# Altium footprint library Crystal.PcbLib: 180 footprints (part 7 of 12)
Each footprint in its own frame and in the unit in brackets; x right, y up, seen from the top. Pads: shape width x height; smd on the part's side, far side on the other; paste and mask are expansions set on the pad; w line width, h text height; cw(c..) or ccw(c..) is an arc to the next point about the centre after c.
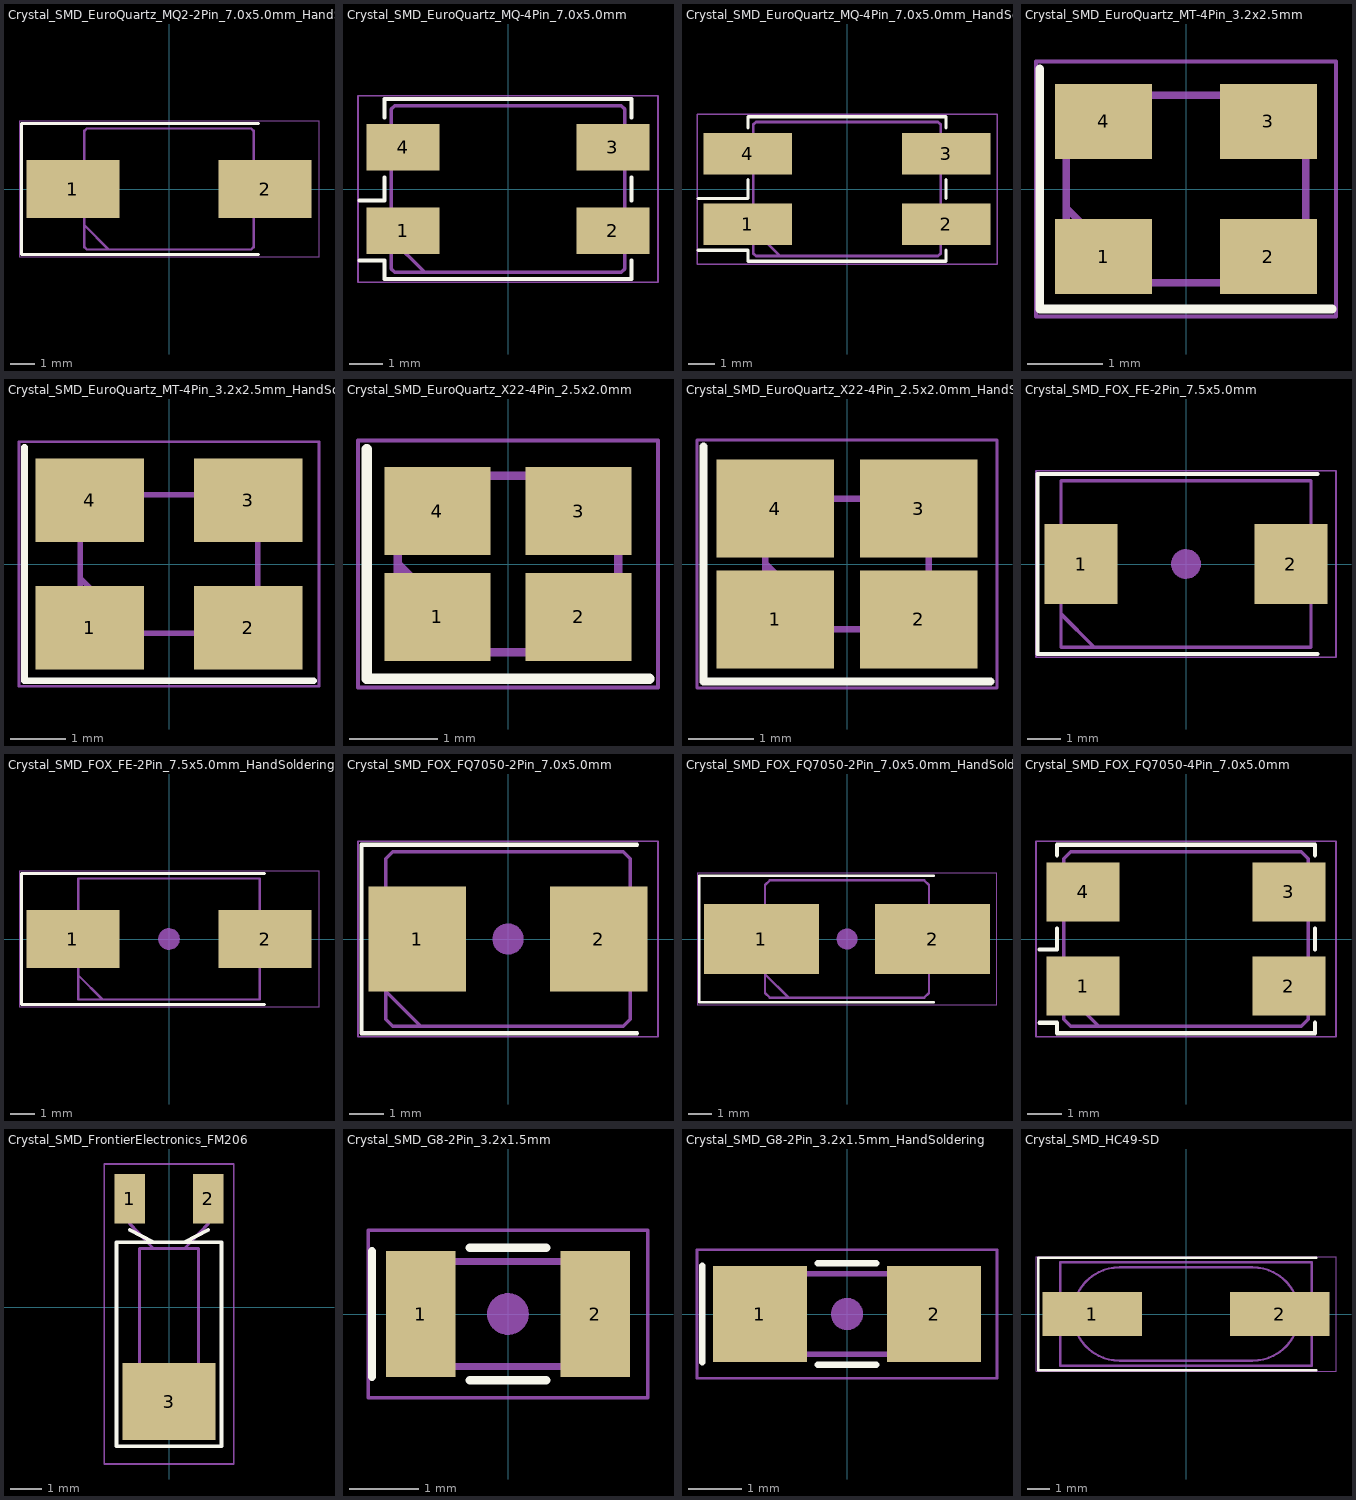
[diagram p6: the footprints below, top view; thin cyan lines are the x and y axes]

## Crystal_SMD_EuroQuartz_MQ2-2Pin_7.0x5.0mm_HandSoldering [mm]
pads (2):
  rect 3.85x2.4 smd: 1(-3.975,0) 2(3.975,0)
F.SilkS:
  lines w0.12: 3.7,-2.7 -6.1,-2.7 -6.1,2.7 3.7,2.7
F.CrtYd:
  lines w0.05: -6.2,-2.8 6.2,-2.8 6.2,2.8 -6.2,2.8 -6.2,-2.8
F.Fab:
  lines w0.1: -3.5,-1.5 -2.5,-2.5 ; -3.5,-2.4 -3.5,2.4 -3.4,2.5 3.4,2.5 3.5,2.4 3.5,-2.4 3.4,-2.5 -3.4,-2.5 -3.5,-2.4
  text "'.Designator'" at -4.047,-0.84 h1

## Crystal_SMD_EuroQuartz_MQ-4Pin_7.0x5.0mm [mm]
pads (4):
  rect 2.2x1.4 smd: 1(-3.15,-1.25) 2(3.15,-1.25) 3(3.15,1.25) 4(-3.15,1.25)
F.SilkS:
  lines w0.12: -4.45,-2.15 -3.7,-2.15 -3.7,-2.7 3.7,-2.7 3.7,-2.15 ; -4.45,-0.35 -3.7,-0.35 -3.7,0.35 ; -3.7,2.15 -3.7,2.7 3.7,2.7 3.7,2.15 ; 3.7,-0.35 3.7,0.35
F.CrtYd:
  lines w0.05: -4.5,-2.8 -4.5,2.8 4.5,2.8 4.5,-2.8 -4.5,-2.8
F.Fab:
  lines w0.1: -3.5,-1.5 -2.5,-2.5 ; -3.5,-2.4 -3.5,2.4 -3.4,2.5 3.4,2.5 3.5,2.4 3.5,-2.4 3.4,-2.5 -3.4,-2.5 -3.5,-2.4
  text "'.Designator'" at -4.047,-0.84 h1

## Crystal_SMD_EuroQuartz_MQ-4Pin_7.0x5.0mm_HandSoldering [mm]
pads (4):
  rect 3.3x1.54 smd: 1(-3.7,-1.32) 2(3.7,-1.32) 3(3.7,1.32) 4(-3.7,1.32)
F.SilkS:
  lines w0.12: -5.55,-2.29 -3.7,-2.29 -3.7,-2.7 3.7,-2.7 3.7,-2.29 ; -5.55,-0.35 -3.7,-0.35 -3.7,0.35 ; -3.7,2.29 -3.7,2.7 3.7,2.7 3.7,2.29 ; 3.7,-0.35 3.7,0.35
F.CrtYd:
  lines w0.05: -5.6,-2.8 5.6,-2.8 5.6,2.8 -5.6,2.8 -5.6,-2.8
F.Fab:
  lines w0.1: -3.5,-1.5 -2.5,-2.5 ; -3.5,-2.4 -3.5,2.4 -3.4,2.5 3.4,2.5 3.5,2.4 3.5,-2.4 3.4,-2.5 -3.4,-2.5 -3.5,-2.4
  text "'.Designator'" at -4.047,-0.84 h1

## Crystal_SMD_EuroQuartz_MT-4Pin_3.2x2.5mm [mm]
pads (4):
  rect 1.3x1 smd: 1(-1.1,-0.9) 2(1.1,-0.9) 3(1.1,0.9) 4(-1.1,0.9)
F.SilkS:
  lines w0.12: -1.95,1.6 -1.95,-1.6 1.95,-1.6
F.CrtYd:
  lines w0.05: -2,-1.7 -2,1.7 2,1.7 2,-1.7 -2,-1.7
F.Fab:
  lines w0.1: -1.6,-0.25 -0.6,-1.25 ; -1.6,-1.15 -1.5,-1.25 1.5,-1.25 1.6,-1.15 1.6,1.15 1.5,1.25 -1.5,1.25 -1.6,1.15 -1.6,-1.15
  text "'.Designator'" at -2.833,-0.588 h0.7
3D body "Crystal_SMD_EuroQuartz_MT-4Pin_3.2x2.5mm.step": height 0.64, standoff 0, extent -1.599,-1.251 1.601,1.25

## Crystal_SMD_EuroQuartz_MT-4Pin_3.2x2.5mm_HandSoldering [mm]
pads (4):
  rect 1.95x1.5 smd: 1(-1.425,-1.15) 2(1.425,-1.15) 3(1.425,1.15) 4(-1.425,1.15)
F.SilkS:
  lines w0.12: -2.6,2.1 -2.6,-2.1 2.6,-2.1
F.CrtYd:
  lines w0.05: -2.7,-2.2 2.7,-2.2 2.7,2.2 -2.7,2.2 -2.7,-2.2
F.Fab:
  lines w0.1: -1.6,-0.25 -0.6,-1.25 ; -1.6,-1.15 -1.6,1.15 -1.5,1.25 1.5,1.25 1.6,1.15 1.6,-1.15 1.5,-1.25 -1.5,-1.25 -1.6,-1.15
  text "'.Designator'" at -2.833,-0.588 h0.7
3D body "Crystal_SMD_EuroQuartz_MT-4Pin_3.2x2.5mm_HandSoldering.step": height 0.64, standoff 0, extent -1.599,-1.251 1.601,1.25

## Crystal_SMD_EuroQuartz_X22-4Pin_2.5x2.0mm [mm]
pads (4):
  rect 1.2x1 smd: 1(-0.8,-0.6) 2(0.8,-0.6) 3(0.8,0.6) 4(-0.8,0.6)
F.SilkS:
  lines w0.12: -1.6,1.3 -1.6,-1.3 1.6,-1.3
F.CrtYd:
  lines w0.05: -1.7,-1.4 -1.7,1.4 1.7,1.4 1.7,-1.4 -1.7,-1.4
F.Fab:
  lines w0.1: -1.25,0 -0.25,-1 ; -1.25,-0.9 -1.25,0.9 -1.15,1 1.15,1 1.25,0.9 1.25,-0.9 1.15,-1 -1.15,-1 -1.25,-0.9
  text "'.Designator'" at -2.428,-0.504 h0.6

## Crystal_SMD_EuroQuartz_X22-4Pin_2.5x2.0mm_HandSoldering [mm]
pads (4):
  rect 1.8x1.5 smd: 1(-1.1,-0.85) 2(1.1,-0.85) 3(1.1,0.85) 4(-1.1,0.85)
F.SilkS:
  lines w0.12: -2.2,1.8 -2.2,-1.8 2.2,-1.8
F.CrtYd:
  lines w0.05: -2.3,-1.9 -2.3,1.9 2.3,1.9 2.3,-1.9 -2.3,-1.9
F.Fab:
  lines w0.1: -1.25,0 -0.25,-1 ; -1.25,-0.9 -1.15,-1 1.15,-1 1.25,-0.9 1.25,0.9 1.15,1 -1.15,1 -1.25,0.9 -1.25,-0.9
  text "'.Designator'" at -2.428,-0.504 h0.6

## Crystal_SMD_FOX_FE-2Pin_7.5x5.0mm [mm]
pads (2):
  rect 2.2x2.4 smd: 1(-3.15,0) 2(3.15,0)
F.SilkS:
  lines w0.12: 3.95,-2.7 -4.45,-2.7 -4.45,2.7 3.95,2.7
F.CrtYd:
  lines w0.05: -4.5,-2.8 4.5,-2.8 4.5,2.8 -4.5,2.8 -4.5,-2.8
F.Fab:
  lines w0.1: -3.75,-1.5 -2.75,-2.5 ; -3.75,-2.5 3.75,-2.5 3.75,2.5 -3.75,2.5 -3.75,-2.5
  text "'.Designator'" at -4.047,-0.84 h1
F.Adhes:
  circle w0.1: c0,0 r0.4
  circle w0.133: c0,0 r0.333
  circle w0.187: c0,0 r0.093
  circle w0.133: c0,0 r0.213

## Crystal_SMD_FOX_FE-2Pin_7.5x5.0mm_HandSoldering [mm]
pads (2):
  rect 3.85x2.4 smd: 1(-3.975,0) 2(3.975,0)
F.SilkS:
  lines w0.12: 3.95,-2.7 -6.1,-2.7 -6.1,2.7 3.95,2.7
F.CrtYd:
  lines w0.05: -6.2,-2.8 6.2,-2.8 6.2,2.8 -6.2,2.8 -6.2,-2.8
F.Fab:
  lines w0.1: -3.75,-1.5 -2.75,-2.5 ; -3.75,-2.5 3.75,-2.5 3.75,2.5 -3.75,2.5 -3.75,-2.5
  text "'.Designator'" at -4.047,-0.84 h1
F.Adhes:
  circle w0.133: c0,0 r0.213
  circle w0.133: c0,0 r0.333
  circle w0.1: c0,0 r0.4
  circle w0.187: c0,0 r0.093

## Crystal_SMD_FOX_FQ7050-2Pin_7.0x5.0mm [mm]
pads (2):
  rect 2.8x3 smd: 1(-2.6,0) 2(2.6,0)
F.SilkS:
  lines w0.12: 3.7,-2.7 -4.2,-2.7 -4.2,2.7 3.7,2.7
F.CrtYd:
  lines w0.05: -4.3,-2.8 -4.3,2.8 4.3,2.8 4.3,-2.8 -4.3,-2.8
F.Fab:
  lines w0.1: -3.5,-1.5 -2.5,-2.5 ; -3.5,-2.3 -3.3,-2.5 3.3,-2.5 3.5,-2.3 3.5,2.3 3.3,2.5 -3.3,2.5 -3.5,2.3 -3.5,-2.3
  text "'.Designator'" at -4.047,-0.84 h1
F.Adhes:
  circle w0.1: c0,0 r0.4
  circle w0.133: c0,0 r0.213
  circle w0.187: c0,0 r0.093
  circle w0.133: c0,0 r0.333

## Crystal_SMD_FOX_FQ7050-2Pin_7.0x5.0mm_HandSoldering [mm]
pads (2):
  rect 4.9x3 smd: 1(-3.65,0) 2(3.65,0)
F.SilkS:
  lines w0.12: 3.7,-2.7 -6.3,-2.7 -6.3,2.7 3.7,2.7
F.CrtYd:
  lines w0.05: -6.4,-2.8 -6.4,2.8 6.4,2.8 6.4,-2.8 -6.4,-2.8
F.Fab:
  lines w0.1: -3.5,-1.5 -2.5,-2.5 ; -3.5,-2.3 -3.3,-2.5 3.3,-2.5 3.5,-2.3 3.5,2.3 3.3,2.5 -3.3,2.5 -3.5,2.3 -3.5,-2.3
  text "'.Designator'" at -4.047,-0.84 h1
F.Adhes:
  circle w0.187: c0,0 r0.093
  circle w0.1: c0,0 r0.4
  circle w0.133: c0,0 r0.213
  circle w0.133: c0,0 r0.333

## Crystal_SMD_FOX_FQ7050-4Pin_7.0x5.0mm [mm]
pads (4):
  rect 2.1x1.7 smd: 1(-2.95,-1.35) 2(2.95,-1.35) 3(2.95,1.35) 4(-2.95,1.35)
F.SilkS:
  lines w0.12: -4.2,-2.4 -3.7,-2.4 -3.7,-2.7 3.7,-2.7 3.7,-2.4 ; -4.2,-0.3 -3.7,-0.3 -3.7,0.3 ; -3.7,2.4 -3.7,2.7 3.7,2.7 3.7,2.4 ; 3.7,-0.3 3.7,0.3
F.CrtYd:
  lines w0.05: -4.3,-2.8 4.3,-2.8 4.3,2.8 -4.3,2.8 -4.3,-2.8
F.Fab:
  lines w0.1: -3.5,-1.5 -2.5,-2.5 ; -3.5,-2.3 -3.3,-2.5 3.3,-2.5 3.5,-2.3 3.5,2.3 3.3,2.5 -3.3,2.5 -3.5,2.3 -3.5,-2.3
  text "'.Designator'" at -4.047,-0.84 h1

## Crystal_SMD_FrontierElectronics_FM206 [mm]
pads (3):
  rect 1x1.6 smd: 1(-1.27,3.5) 2(1.27,3.5)
  rect 3x2.5 smd: 3(0,-3.05)
F.SilkS:
  lines w0.12: -1.27,2.5 -0.5,2.1 ; 0.5,2.1 1.27,2.5 ; -1.7,-4.5 1.7,-4.5 1.7,2.1 -1.7,2.1 -1.7,-4.5
F.CrtYd:
  lines w0.05: -2.1,-5.07 -2.1,4.63 2.1,4.63 2.1,-5.07 -2.1,-5.07
F.Fab:
  lines w0.1: -1.27,3.5 -1.27,2.7 -0.5,1.9 ; 0.5,1.9 1.27,2.7 1.27,3.5 ; -0.95,-4.1 -0.95,1.9 0.95,1.9 0.95,-4.1 -0.95,-4.1
  text "'.Designator'" at -2.428,-0.804 h0.6

## Crystal_SMD_G8-2Pin_3.2x1.5mm [mm]
pads (2):
  rect 1x1.8 smd: 1(-1.25,0) 2(1.25,0)
F.SilkS:
  lines w0.12: -1.95,-0.9 -1.95,0.9 ; -0.55,-0.95 0.55,-0.95 ; -0.55,0.95 0.55,0.95
F.CrtYd:
  lines w0.05: -2,-1.2 2,-1.2 2,1.2 -2,1.2 -2,-1.2
F.Fab:
  lines w0.1: -1.6,-0.25 -1.1,-0.75 ; -1.6,-0.75 -1.6,0.75 1.6,0.75 1.6,-0.75 -1.6,-0.75
  text "'.Designator'" at -2.833,-0.588 h0.7
F.Adhes:
  circle w0.1: c0,0 r0.25
  circle w0.083: c0,0 r0.133
  circle w0.117: c0,0 r0.058
  circle w0.083: c0,0 r0.208

## Crystal_SMD_G8-2Pin_3.2x1.5mm_HandSoldering [mm]
pads (2):
  rect 1.75x1.8 smd: 1(-1.625,0) 2(1.625,0)
F.SilkS:
  lines w0.12: -2.7,-0.9 -2.7,0.9 ; -0.55,-0.95 0.55,-0.95 ; -0.55,0.95 0.55,0.95
F.CrtYd:
  lines w0.05: -2.8,-1.2 -2.8,1.2 2.8,1.2 2.8,-1.2 -2.8,-1.2
F.Fab:
  lines w0.1: -1.6,-0.25 -1.1,-0.75 ; -1.6,-0.75 -1.6,0.75 1.6,0.75 1.6,-0.75 -1.6,-0.75
  text "'.Designator'" at -2.833,-0.588 h0.7
F.Adhes:
  circle w0.083: c0,0 r0.208
  circle w0.117: c0,0 r0.058
  circle w0.1: c0,0 r0.25
  circle w0.083: c0,0 r0.133

## Crystal_SMD_HC49-SD [mm]
pads (2):
  rect 4.5x2 smd: 1(-4.25,0) 2(4.25,0)
F.SilkS:
  lines w0.12: 5.9,-2.55 -6.7,-2.55 -6.7,2.55 5.9,2.55
F.CrtYd:
  lines w0.05: -6.8,-2.6 6.8,-2.6 6.8,2.6 -6.8,2.6 -6.8,-2.6
F.Fab:
  lines w0.1: -5.7,-2.35 -5.7,2.35 5.7,2.35 5.7,-2.35 -5.7,-2.35 ; -3.015,-2.115 cw(c-3.015,0) -3.015,2.115 3.015,2.115 cw(c3.015,0) 3.015,-2.115 -3.015,-2.115
  text "'.Designator'" at -4.047,-0.84 h1
3D body "Crystal_SMD_HC49-SD.step": height 4, standoff 0, extent -6.25,-2.325 6.25,2.325